# Altium footprint library DF40B-60DS-0.4V(51).PcbLib: 1 footprints
Each footprint in its own frame and in the unit in brackets; x right, y up, seen from the top. Pads: shape width x height; smd on the part's side, far side on the other; paste and mask are expansions set on the pad; w line width, h text height; cw(c..) or ccw(c..) is an arc to the next point about the centre after c.
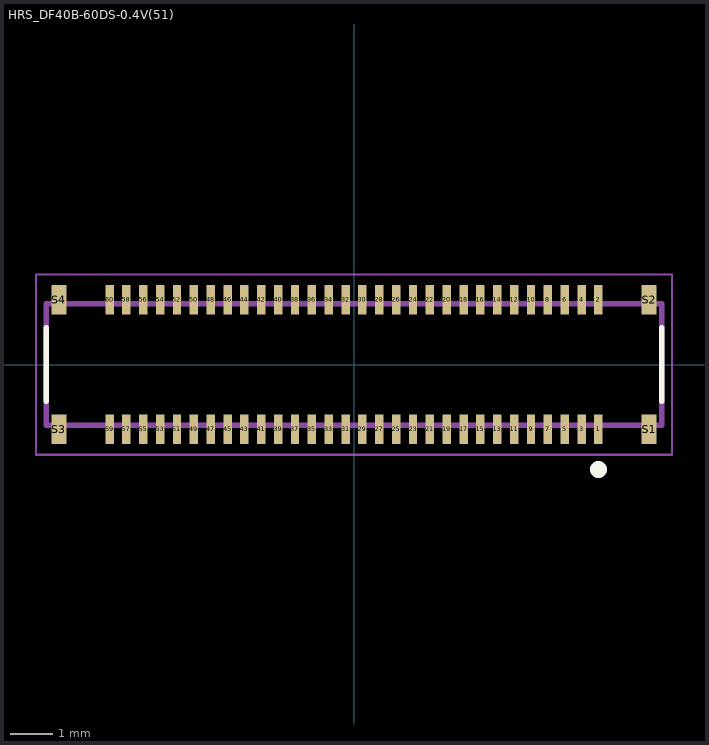
[diagram p0: the footprint, top view; thin cyan lines are the x and y axes]

## HRS_DF40B-60DS-0.4V(51) [mm]
pads (64):
  rect 0.2x0.7 smd paste-1 mask+0.05: 1(5.8,-1.54) 2(5.8,1.54) 3(5.4,-1.54) 4(5.4,1.54) 5(5,-1.54) 6(5,1.54) 7(4.6,-1.54) 8(4.6,1.54) 9(4.2,-1.54) 10(4.2,1.54) 11(3.8,-1.54) 12(3.8,1.54) 13(3.4,-1.54) 14(3.4,1.54) 15(3,-1.54) 16(3,1.54) 17(2.6,-1.54) 18(2.6,1.54) 19(2.2,-1.54) 20(2.2,1.54) 21(1.8,-1.54) 22(1.8,1.54) 23(1.4,-1.54) 24(1.4,1.54) 25(1,-1.54) 26(1,1.54) 27(0.6,-1.54) 28(0.6,1.54) 29(0.2,-1.54) 30(0.2,1.54) 31(-0.2,-1.54) 32(-0.2,1.54) 33(-0.6,-1.54) 34(-0.6,1.54) 35(-1,-1.54) 36(-1,1.54) 37(-1.4,-1.54) 38(-1.4,1.54) 39(-1.8,-1.54) 40(-1.8,1.54) 41(-2.2,-1.54) 42(-2.2,1.54) 43(-2.6,-1.54) 44(-2.6,1.54) 45(-3,-1.54) 46(-3,1.54) 47(-3.4,-1.54) 48(-3.4,1.54) 49(-3.8,-1.54) 50(-3.8,1.54) 51(-4.2,-1.54) 52(-4.2,1.54) 53(-4.6,-1.54) 54(-4.6,1.54) 55(-5,-1.54) 56(-5,1.54) 57(-5.4,-1.54) 58(-5.4,1.54) 59(-5.8,-1.54) 60(-5.8,1.54)
  rect 0.35x0.7 smd paste-1: S1(7,-1.54) S2(7,1.54) S3(-7,-1.54) S4(-7,1.54)
Top Overlay:
  circle w0.2: c5.8,-2.49 r0.1
  lines w0.127: -7.3,-0.87 -7.3,0.87 ; 7.3,-0.87 7.3,0.87
Mechanical 13:
  circle w0.2: c5.8,-2.49 r0.1
  lines w0.127: -7.3,-1.44 -7.3,1.44 7.3,1.44 7.3,-1.44 -7.3,-1.44
Mechanical 15:
  lines w0.05: -7.55,-2.14 7.55,-2.14 7.55,2.14 -7.55,2.14 -7.55,-2.14
3D body "step_temp.STEP": height 1.4, standoff -0.05, extent -7.288,-1.69 7.312,1.69